# Altium schematic symbol library ICM-42688-P.SchLib: 1 symbol
Pins are listed as number, name and electrical type; pins without a type are passive.

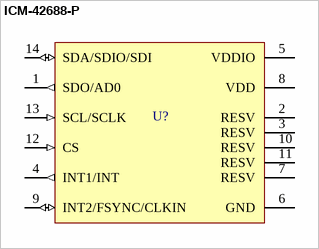
[diagram p0: symbol ICM-42688-P]

## ICM-42688-P
designator U?
Accelerometer, Gyroscope, 6 Axis Sensor Output
pins: 1 SDO/AD0 (out), 2 RESV, 3 RESV, 4 INT1/INT (out), 5 VDDIO (power), 6 GND (power), 7 RESV, 8 VDD (power), 9 INT2/FSYNC/CLKIN (io), 10 RESV, 11 RESV, 12 CS (in), 13 SCL/SCLK (in), 14 SDA/SDIO/SDI (io)